# EAGLE library part LIS3MDL (library chips)
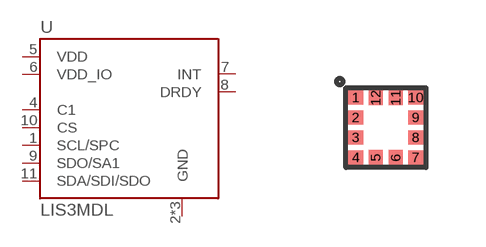
[diagram p101: symbol with the pads of LGA-12; footprint LGA-12]

Designator prefix U

## LIS3MDL (DIGIKEY: 497-13892-1-ND; MANUFACTURER: STM; MPN: LIS3MDLTR)  [LGA-12]
1  SCL/SPC
2  GND
3  GND
4  C1
5  VDD
6  VDD_IO
7  INT
8  DRDY
9  SDO/SA1
10  CS
11  SDA/SDI/SDO
12  GND

## Footprint LGA-12 (pad centres in mm)
smd 0.375 x 0.35: 1 -0.75,0.75; 2 -0.75,0.25; 3 -0.75,-0.25; 4 -0.75,-0.75; 7 0.75,-0.75; 8 0.75,-0.25; 9 0.75,0.25; 10 0.75,0.75
smd 0.35 x 0.375: 5 -0.25,-0.75; 6 0.25,-0.75; 11 0.25,0.75; 12 -0.25,0.75